# Altium schematic symbol library 第五届省赛.SchLib: 5 symbols
Pins are listed as number, name and electrical type; pins without a type are passive.

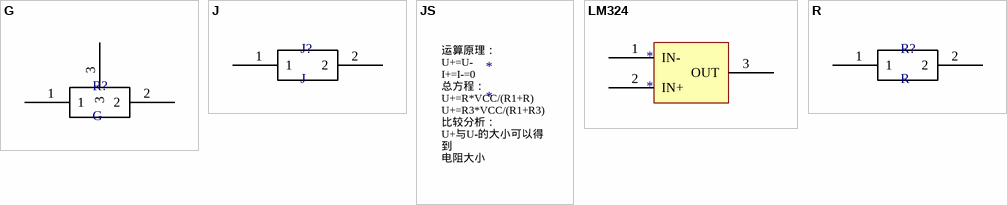
[diagram p0: symbols G to R]

## G
designator R?
pins: 1, 2, 3

## J
designator J?
pins: 1, 2

## JS
designator *
text: 运算原理： / U+=U- / I+=I-=0 / 总方程： / U+=R*VCC/(R1+R) / U+=R3*VCC/(R1+R3) / 比较分析： / U+与U-的大小可以得到 / 电阻大小

## LM324
designator *
pins: 1 IN-, 2 IN+, 3 OUT, 4 VCC (power) hidden to VCC, 5 GND (power) hidden to VCC

## R
designator R?
pins: 1, 2